# Altium schematic symbol library Schlib-PCB-Invernadero.SchLib: 5 symbols
Pins are listed as number, name and electrical type; pins without a type are passive.

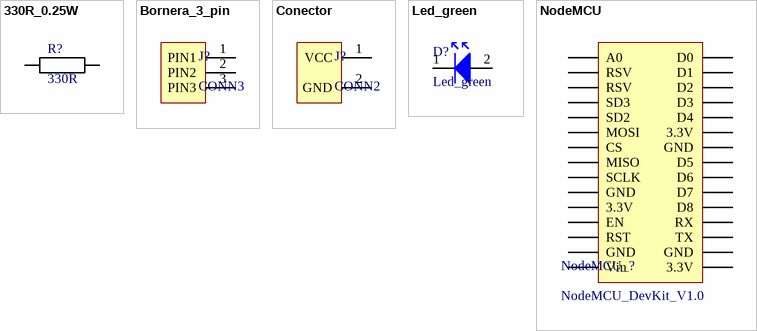
[diagram p0: symbols 330R_0.25W to NodeMCU]

## 330R_0.25W
designator R?, comment 330R
footprint 330R_P8mm_0.25W
pins: 1, 2

## Bornera_3_pin
designator J?, comment CONN3
footprint CONN3
pins: 1 PIN1, 2 PIN2, 3 PIN3

## Conector
designator J?, comment CONN2
footprint CONN2
pins: 1 VCC, 2 GND

## Led_green
designator D?
footprint Diode_5mm_green
pins: 1, 2

## NodeMCU
designator NodeMCU_?, comment NodeMCU_DevKit_V1.0
footprint NodeMCU_DevKit_V1.0
pins: 3.3V, 3.3V, 3.3V, A0, CS, D0, D1, D2, D3, D4, D5, D6, D7, D8, EN, GND, GND, GND, GND, MISO, MOSI, RST, RSV, RSV, RX, SCLK, SD2, SD3, TX, Vin